# EAGLE library part 12401610E4#2A (library 12401610E4_2A)
Usb Type-c, Ra Rcpt, Pcb Mount,
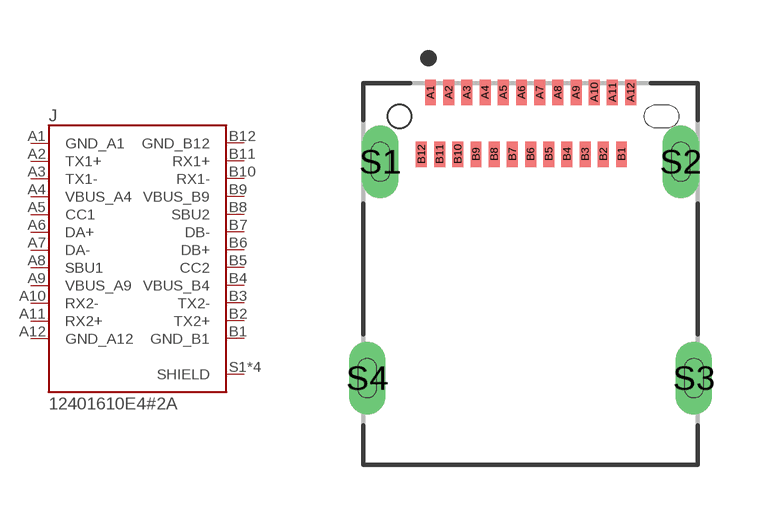
[diagram p0: symbol with the pads of AMPHENOL_12401610E4#2A; footprint AMPHENOL_12401610E4#2A]

Designator prefix J

## 12401610E4#2A (Description: Conn USB Type C Surface Mount Receptacle; Digi-Key_Part_Number: 12401610E4#2ACT-ND; Digi-Key_Purchase_URL: https://www.digikey.com/product-detail/en/amphenol-icc-commercial-products/12401610E4-2A/12401610E4-2ACT-ND/5775520?utm_source=snapeda&utm_medium=aggregator&utm_campaign=symbol; MF: Amphenol ICC; MP: 12401610E4#2A; Package: None)  [AMPHENOL_12401610E4#2A]
A1  GND_A1  pas
A2  TX1+  pas
A3  TX1-  pas
A4  VBUS_A4  pas
A5  CC1  pas
A6  DA+  pas
A7  DA-  pas
A8  SBU1  pas
A9  VBUS_A9  pas
A10  RX2-  pas
A11  RX2+  pas
A12  GND_A12  pas
B1  GND_B1  pas
B2  TX2+  pas
B3  TX2-  pas
B4  VBUS_B4  pas
B5  CC2  pas
B6  DB+  pas
B7  DB-  pas
B8  SBU2  pas
B9  VBUS_B9  pas
B10  RX1-  pas
B11  RX1+  pas
B12  GND_B12  pas
S1  SHIELD  pas
S2  SHIELD  pas
S3  SHIELD  pas
S4  SHIELD  pas

## Footprint AMPHENOL_12401610E4#2A (pad centres in mm)
smd 0.3 x 0.7: A1 -2.75,0.66; A2 -2.25,0.66; A3 -1.75,0.66; A4 -1.25,0.66; A5 -0.75,0.66; A6 -0.25,0.66; A7 0.25,0.66; A8 0.75,0.66; A9 1.25,0.66; A10 1.75,0.66; A11 2.25,0.66; A12 2.75,0.66; B1 2.5,-1.04; B2 2,-1.04; B3 1.5,-1.04; B4 1,-1.04; B5 0.5,-1.04; B6 0,-1.04; B7 -0.5,-1.04; B8 -1,-1.04; B9 -1.5,-1.04; B10 -2,-1.04; B11 -2.5,-1.04; B12 -3,-1.04
drill 0.5 pad 0.8 long: S1 -4.13,-1.25; S2 4.13,-1.25; S3 4.49,-7.2; S4 -4.49,-7.2
hole 0.65 at -3.6,0